# EAGLE library part IR2109 (library parts)
Half-bridge driver
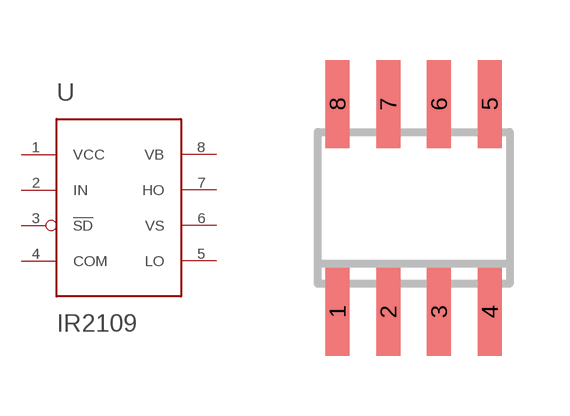
[diagram p1: symbol with the pads of SO08; footprint SO08]

Designator prefix -

## IR2109  [SO08]
1  VCC
2  IN  in
3  !SD!  in
4  COM
5  LO
6  VS
7  HO
8  VB

## Footprint SO08 (pad centres in mm)
SMALL OUTLINE INTEGRATED CIRCUIT body 3.9 mm/JEDEC MS-012AA
smd 0.6 x 2.2: 1 -1.905,-2.6; 2 -0.635,-2.6; 3 0.635,-2.6; 4 1.905,-2.6; 5 1.905,2.6; 6 0.635,2.6; 7 -0.635,2.6; 8 -1.905,2.6